# EAGLE library part AD623ANZ (library Parts)
Single-Supply, Rail-to-Rail, Low Cost Instrumentation Amplifier Source: Datasheet <http://componentsearchengine.com/Datasheets/3/AD623ANZ.pdf>
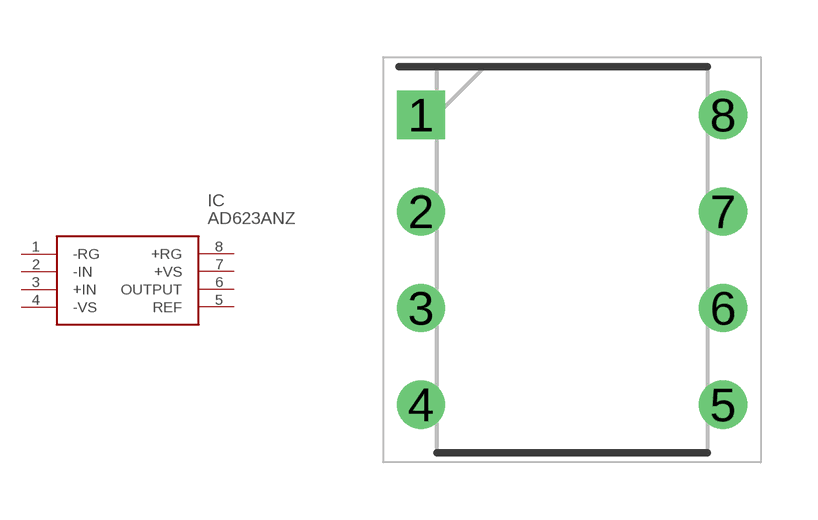
[diagram p0: symbol with the pads of DIP794W56P254L959H533Q8N; footprint DIP794W56P254L959H533Q8N]

Designator prefix IC

## AD623ANZ (DESCRIPTION: Single-Supply, Rail-to-Rail, Low Cost Instrumentation Amplifier; HEIGHT: 5.33mm; MANUFACTURER_NAME: Analog Devices; MANUFACTURER_PART_NUMBER: AD623ANZ; MOUSER_PART_NUMBER: 584-AD623ANZ; MOUSER_PRICE-STOCK: https://www.mouser.co.uk/ProductDetail/Analog-Devices/AD623ANZ?qs=NmRFExCfTkFNc5Hlpv4LKQ%3D%3D)  [DIP794W56P254L959H533Q8N]
1  -RG
2  -IN
3  +IN
4  -VS
5  REF
6  OUTPUT
7  +VS
8  +RG

## Footprint DIP794W56P254L959H533Q8N (pad centres in mm)
8-Lead Plastic Dual In-Line Package [PDIP] (N-8)
drill 0.76 pad 1.16 square: 1 -3.97,3.81
drill 0.76 pad 1.16: 2 -3.97,1.27; 3 -3.97,-1.27; 4 -3.97,-3.81; 5 3.97,-3.81; 6 3.97,-1.27; 7 3.97,1.27; 8 3.97,3.81